# EAGLE library part SI7336ADP-T1-GE3 (library SI7336ADP-T1-GE3)
MOSFET 30V 30A 5.4W 3.0mohm @ 10V Source: Datasheet <https://www.vishay.com/docs/73152/si7336adp.pdf>
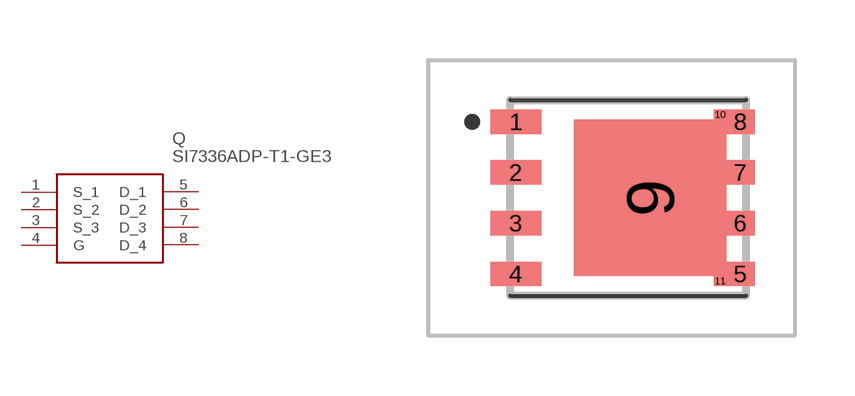
[diagram p0: symbol with the pads of SI7141DPT1GE3; footprint SI7141DPT1GE3]

Designator prefix Q

## SI7336ADP-T1-GE3 (Arrow_Part_Number: SI7336ADP-T1-GE3; Arrow_Price-Stock: https://www.arrow.com/en/products/si7336adp-t1-ge3/vishay; Description: MOSFET 30V 30A 5.4W 3.0mohm @ 10V; Height: mm; Manufacturer_Name: Vishay; Manufacturer_Part_Number: SI7336ADP-T1-GE3; Mouser_Part_Number: 781-SI7336ADP-GE3; Mouser_Price-Stock: https://www.mouser.co.uk/ProductDetail/Vishay-Semiconductors/SI7336ADP-T1-GE3?qs=rsuNcXF5LUYW4GWPNOtlwQ%3D%3D)  [SI7141DPT1GE3]
1  S_1
2  S_2
3  S_3
4  G
5  D_1
6  D_2
7  D_3
8  D_4

## Footprint SI7141DPT1GE3 (pad centres in mm)
PowerPAK® SO-8 Single_1
smd 1.27 x 0.61: 1 -2.81,1.905; 2 -2.81,0.635; 3 -2.81,-0.635; 4 -2.81,-1.905
smd 0.71 x 0.61: 5 2.81,-1.905; 6 2.81,-0.635; 7 2.81,0.635; 8 2.81,1.905
smd 3.81 x 3.91: 9 0.55,0
smd 0.32 x 0.255: 10 2.3,2.083; 11 2.3,-2.083